# Altium footprint library c-mote.PcbLib: 3 footprints
Each footprint in its own frame and in the unit in brackets; x right, y up, seen from the top. Pads: shape width x height; smd on the part's side, far side on the other; paste and mask are expansions set on the pad; w line width, h text height; cw(c..) or ccw(c..) is an arc to the next point about the centre after c.
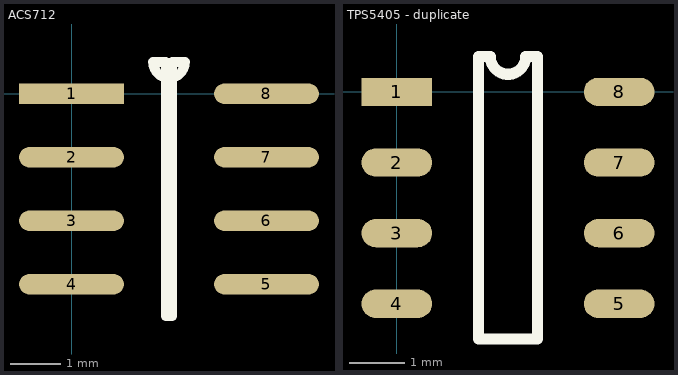
[diagram p0: the footprints below, top view; thin cyan lines are the x and y axes]

## ACS712 [mm]
pads (8):
  rect 2.1x0.41 smd: 1(0,0)
  oval 2.1x0.41 smd: 2(0,-1.27) 3(0,-2.54) 4(0,-3.81) 5(3.9,-3.81) 6(3.9,-2.54) 7(3.9,-1.27) 8(3.9,0)
Top Overlay:
  lines w0.2: 1.632,0.635 ccw(c1.95,0.635) 2.267,0.635 2.015,0.635 2.015,-4.445 1.885,-4.445 1.885,0.635 1.632,0.635

## TPS5405 [mil]

## TPS5405 - duplicate [mm]
pads (8):
  rect 1.27x0.51 smd: 1(0,0)
  oval 1.27x0.51 smd: 2(0,-1.27) 3(0,-2.54) 4(0,-3.81) 5(4,-3.81) 6(4,-2.54) 7(4,-1.27) 8(4,0)
Top Overlay:
  lines w0.2: 1.47,-4.445 1.47,0.635 1.682,0.635 ccw(c2,0.635) 2.317,0.635 2.53,0.635 2.53,-4.445 1.47,-4.445